# EAGLE library part SN74HC125N (library Shell2015)
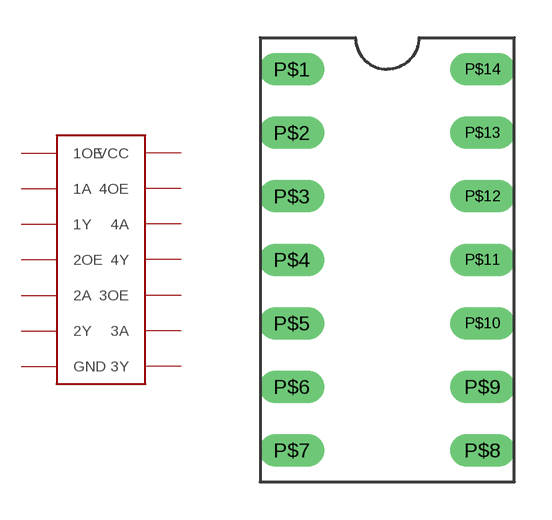
[diagram p1: symbol with the pads of 296-1572-5-ND; footprint 296-1572-5-ND]

Designator prefix -

## SN74HC125N  [296-1572-5-ND]
P$1  1OE
P$2  1A
P$3  1Y
P$4  2OE
P$5  2A
P$6  2Y
P$7  GND
P$8  3Y
P$9  3A
P$10  3OE
P$11  4Y
P$12  4A
P$13  4OE
P$14  VCC

## Footprint 296-1572-5-ND (pad centres in mm)
drill 0.8 long: P$1 -3.81,10.16; P$2 -3.81,7.62; P$3 -3.81,5.08; P$4 -3.81,2.54; P$5 -3.81,0; P$6 -3.81,-2.54; P$7 -3.81,-5.08; P$8 3.81,-5.08; P$9 3.81,-2.54; P$10 3.81,0; P$11 3.81,2.54; P$12 3.81,5.08; P$13 3.81,7.62; P$14 3.81,10.16